# Altium schematic symbol library Connectors.SchLib: 7 symbols
Pins are listed as number, name and electrical type; pins without a type are passive.

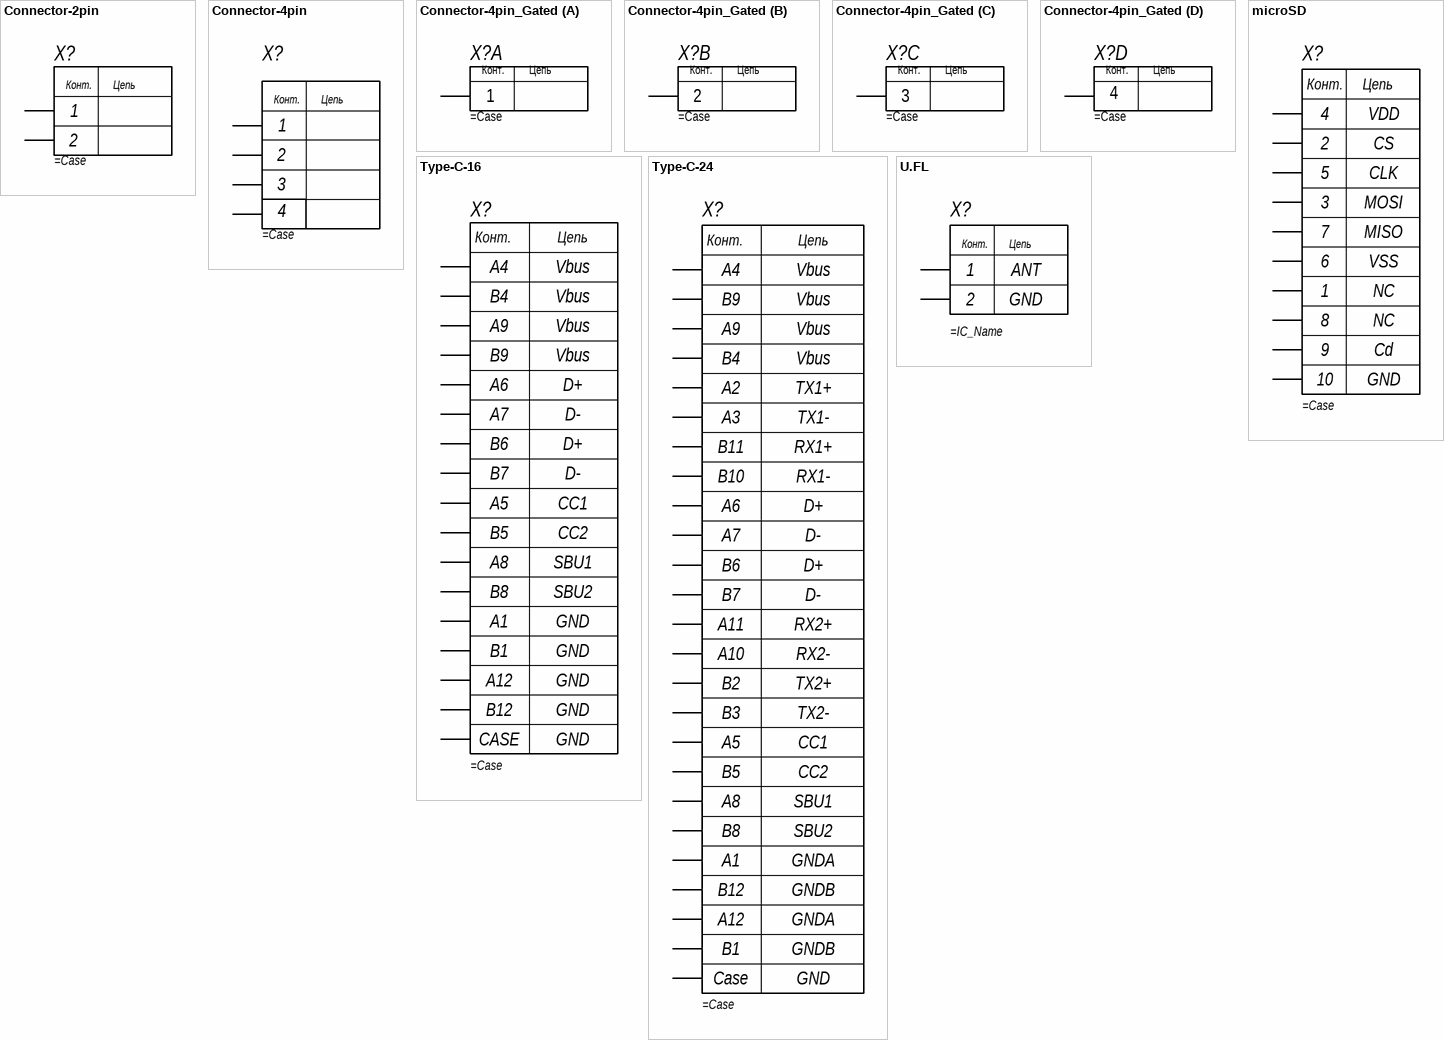
[diagram p0: symbols Connector-2pin to U.FL]

## Connector-2pin
designator X?
pins: 1, 2
text: Конт.; Цепь

## Connector-4pin
designator X?
pins: 1, 2, 3, 4
text: Конт.; Цепь

## Connector-4pin_Gated
designator X?
part A pins: 1
part B pins: 2
part C pins: 3
part D pins: 4
part A text: Конт.; Цепь
part B text: Конт.; Цепь
part C text: Конт.; Цепь
part D text: Конт.; Цепь

## microSD
designator X?
pins: 1, 2, 3, 4, 5, 6, 7, 8, Cd 9, GND 10
text: Конт.; Цепь; VDD; CS; CLK; MOSI; MISO; VSS; NC

## Type-C-16
designator X?
pins: C1 A1, C1 B12, C2 B8, C3 A4, C3 B9, C4 B7, C5 A5, C6 A6, C7 A7, C8 A8, C9 B6, C10 B4, C10 A9, C11 B5, C12 B1, C12 A12, CASE
text: Конт.; Цепь; Vbus; D+; D-; CC1; CC2; SBU1; SBU2; GND

## Type-C-24
designator X?
pins: A1, A2, A3, A4, A5, A6, A7, A8, A9, A10, A11, A12, B1, B2, B3, B4, B5, B6, B7, B8, B9, B10, B11, B12, Case
text: Конт.; Цепь; Vbus; TX1+; TX1-; RX1+; RX1-; D+; D-; RX2+; RX2-; TX2+; TX2-; CC1; CC2; SBU1; SBU2; GNDA; GNDB; GND

## U.FL
designator X?
pins: 1, 2
text: Конт.; Цепь; ANT; GND